# Altium schematic symbol library Murata.SchLib: 3 symbols
Pins are listed as number, name and electrical type; pins without a type are passive.

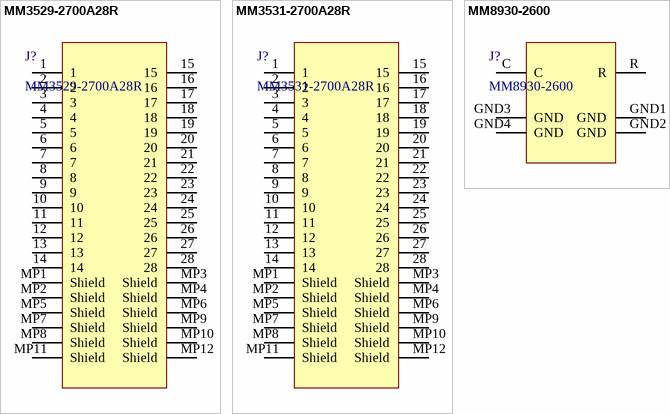
[diagram p0: symbols MM3529-2700A28R to MM8930-2600]

## MM3529-2700A28R
designator J?
RF / Microwave Multi Line Connectors / (Board-to-board / board-to-FPC connectors)
footprint MM3529-2700A28R
pins: 1, 2, 3, 4, 5, 6, 7, 8, 9, 10, 11, 12, 13, 14, 15, 16, 17, 18, 19, 20, 21, 22, 23, 24, 25, 26, 27, 28, MP1 Shield "Mechanical Pads", MP2 Shield "Mechanical Pads", MP3 Shield "Mechanical Pads", MP4 Shield "Mechanical Pads", MP5 Shield "Mechanical Pads", MP6 Shield "Mechanical Pads", MP7 Shield "Mechanical Pads", MP8 Shield "Mechanical Pads", MP9 Shield "Mechanical Pads", MP10 Shield "Mechanical Pads", MP11 Shield "Mechanical Pads", MP12 Shield "Mechanical Pads"

## MM3531-2700A28R
designator J?
RF / Microwave Multi Line Connectors / (Board-to-board / board-to-FPC connectors)
footprint MM3531-2700A28R (RF / Microwave Multi Line Connectors / (Board-to-board / board-to-FPC connectors))
pins: 1, 2, 3, 4, 5, 6, 7, 8, 9, 10, 11, 12, 13, 14, 15, 16, 17, 18, 19, 20, 21, 22, 23, 24, 25, 26, 27, 28, MP1 Shield "Mechanical Pads", MP2 Shield "Mechanical Pads", MP3 Shield "Mechanical Pads", MP4 Shield "Mechanical Pads", MP5 Shield "Mechanical Pads", MP6 Shield "Mechanical Pads", MP7 Shield "Mechanical Pads", MP8 Shield "Mechanical Pads", MP9 Shield "Mechanical Pads", MP10 Shield "Mechanical Pads", MP11 Shield "Mechanical Pads", MP12 Shield "Mechanical Pads"

## MM8930-2600
designator J?
SWH Connector Receptacle, Female Socket 50 Ohms Surface Mount Solder
footprint MM8930-2600_80u (SWH Connector Receptacle, Female Socket 50 Ohms Surface Mount Solder)
footprint MM8930-2600_100u (SWH Connector Receptacle, Female Socket 50 Ohms Surface Mount Solder)
pins: C, GND1 GND, GND2 GND, GND3 GND, GND4 GND, R